# Altium footprint library Buzzer.PcbLib: 1 footprints
Each footprint in its own frame and in the unit in brackets; x right, y up, seen from the top. Pads: shape width x height; smd on the part's side, far side on the other; paste and mask are expansions set on the pad; w line width, h text height; cw(c..) or ccw(c..) is an arc to the next point about the centre after c.
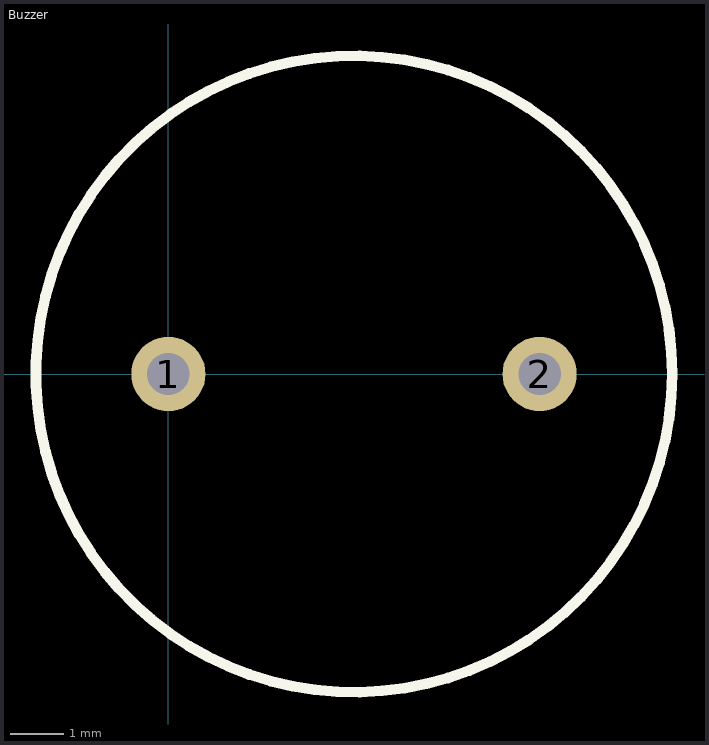
[diagram p0: the footprint, top view; thin cyan lines are the x and y axes]

## Buzzer [mm]
pads (2):
  round 1.4 hole 0.8 mask+0.05: 1(0,0) 2(7,0)
Top Overlay:
  circle w0.2: c3.5,0 r6
3D body: height 9.5, standoff -5.5, extent -2.5,-6 9.5,6